# Altium schematic symbol library 4960.SchLib: 1 symbol
Pins are listed as number, name and electrical type; pins without a type are passive.

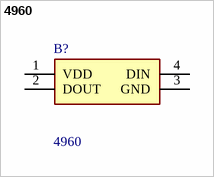
[diagram p0: symbol 4960]

## 4960
designator B?
Adafruit Accessories NeoPixel Reverse Mount RGB LEDs - 10 Pack of SK6812-E; Geometry.Height: 1.88mm; Mouser Part Number: 485-4960; Mouser Price/Stock: https://www.mouser.co.uk/ProductDetail/Adafruit/4960?qs=pBJMDPsKWf1Q%252BqeEoLnQjA%3D%3D; Manufacturer_Name: Adafruit; Manufacturer_Part_Number: 4960; Datasheet Link: https://cdn-shop.adafruit.com/product-files/4960/4960_SK6812MINI-E_REV02_EN.pdf
footprint 4960
pins: 1 VDD, 2 DOUT, 3 GND, 4 DIN